# EAGLE library part USB-B (library usb_uart)
USB, type B connector.
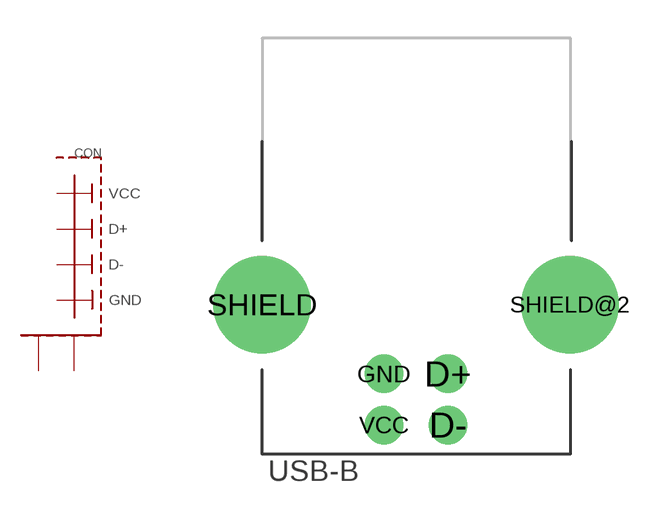
[diagram p1: symbol with the pads of USB-B-THROUGH-HOLE; footprint USB-B-THROUGH-HOLE]

Designator prefix CON

## USB-BWUERTH-ELECTRONIC-USB-B (DATASHEET: http://www.farnell.com/datasheets/1442182.pdf; FARNELL: http://fi.farnell.com/jsp/search/productdetail.jsp?SKU=1642035)  [USB-B-THROUGH-HOLE]
D+  D+
D-  D-
GND  GND
SHIELD  SHIELD
SHIELD@2  SHIELD
VCC  VCC

## Footprint USB-B-THROUGH-HOLE (pad centres in mm)
drill 1: D+ 7.27,-2.71; D- 7.27,-4.71; GND 4.77,-2.71; VCC 4.77,-4.71
drill 2.8: SHIELD 0,0; SHIELD@2 12.04,0